# EAGLE library part MCB_STM32 (library stm32)
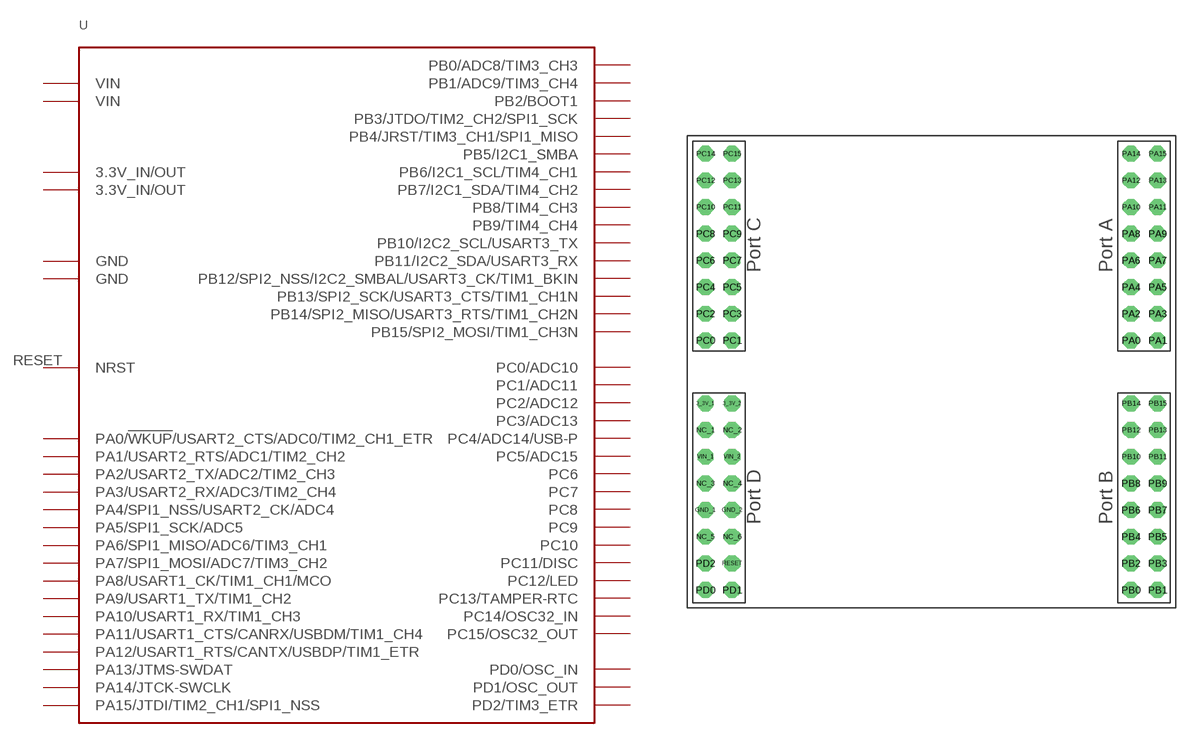
[diagram p7: symbol with the pads of MCBSTM32; footprint MCBSTM32]

Designator prefix U

## MCB_STM32  [MCBSTM32]
3_3V_1  3.3V_IN/OUT  pwr
3_3V_2  3.3V_IN/OUT  pwr
GND_1  GND  pwr
GND_2  GND  pwr
PA0  PA0/!WKUP!/USART2_CTS/ADC0/TIM2_CH1_ETR
PA1  PA1/USART2_RTS/ADC1/TIM2_CH2
PA2  PA2/USART2_TX/ADC2/TIM2_CH3
PA3  PA3/USART2_RX/ADC3/TIM2_CH4
PA4  PA4/SPI1_NSS/USART2_CK/ADC4
PA5  PA5/SPI1_SCK/ADC5
PA6  PA6/SPI1_MISO/ADC6/TIM3_CH1
PA7  PA7/SPI1_MOSI/ADC7/TIM3_CH2
PA8  PA8/USART1_CK/TIM1_CH1/MCO
PA9  PA9/USART1_TX/TIM1_CH2
PA10  PA10/USART1_RX/TIM1_CH3
PA11  PA11/USART1_CTS/CANRX/USBDM/TIM1_CH4
PA12  PA12/USART1_RTS/CANTX/USBDP/TIM1_ETR
PA13  PA13/JTMS-SWDAT
PA14  PA14/JTCK-SWCLK
PA15  PA15/JTDI/TIM2_CH1/SPI1_NSS
PB0  PB0/ADC8/TIM3_CH3
PB1  PB1/ADC9/TIM3_CH4
PB2  PB2/BOOT1
PB3  PB3/JTDO/TIM2_CH2/SPI1_SCK
PB4  PB4/JRST/TIM3_CH1/SPI1_MISO
PB5  PB5/I2C1_SMBA
PB6  PB6/I2C1_SCL/TIM4_CH1
PB7  PB7/I2C1_SDA/TIM4_CH2
PB8  PB8/TIM4_CH3
PB9  PB9/TIM4_CH4
PB10  PB10/I2C2_SCL/USART3_TX
PB11  PB11/I2C2_SDA/USART3_RX
PB12  PB12/SPI2_NSS/I2C2_SMBAL/USART3_CK/TIM1_BKIN
PB13  PB13/SPI2_SCK/USART3_CTS/TIM1_CH1N
PB14  PB14/SPI2_MISO/USART3_RTS/TIM1_CH2N
PB15  PB15/SPI2_MOSI/TIM1_CH3N
PC0  PC0/ADC10
PC1  PC1/ADC11
PC2  PC2/ADC12
PC3  PC3/ADC13
PC4  PC4/ADC14/USB-P
PC5  PC5/ADC15
PC6  PC6
PC7  PC7
PC8  PC8
PC9  PC9
PC10  PC10
PC11  PC11/DISC
PC12  PC12/LED
PC13  PC13/TAMPER-RTC
PC14  PC14/OSC32_IN
PC15  PC15/OSC32_OUT
PD0  PD0/OSC_IN
PD1  PD1/OSC_OUT
PD2  PD2/TIM3_ETR
RESET  NRST
VIN_1  VIN  pwr
VIN_2  VIN  pwr

## Footprint MCBSTM32 (pad centres in mm)
drill 1 octagon: 3_3V_1 -21.52,-3; 3_3V_2 -18.98,-3; GND_1 -21.52,-13.16; GND_2 -18.98,-13.16; NC_1 -21.52,-5.54; NC_2 -18.98,-5.54; NC_3 -21.52,-10.62; NC_4 -18.98,-10.62; NC_5 -21.52,-15.7; NC_6 -18.98,-15.7; PA0 18.98,3; PA1 21.52,3; PA2 18.98,5.54; PA3 21.52,5.54; PA4 18.98,8.08; PA5 21.52,8.08; PA6 18.98,10.62; PA7 21.52,10.62; PA8 18.98,13.16; PA9 21.52,13.16; PA10 18.98,15.7; PA11 21.52,15.7; PA12 18.98,18.24; PA13 21.52,18.24; PA14 18.98,20.78; PA15 21.52,20.78; PB0 18.98,-20.78; PB1 21.52,-20.78; PB2 18.98,-18.24; PB3 21.52,-18.24; PB4 18.98,-15.7; PB5 21.52,-15.7; PB6 18.98,-13.16; PB7 21.52,-13.16; PB8 18.98,-10.62; PB9 21.52,-10.62; PB10 18.98,-8.08; PB11 21.52,-8.08; PB12 18.98,-5.54; PB13 21.52,-5.54; PB14 18.98,-3; PB15 21.52,-3; PC0 -21.52,3; PC1 -18.98,3; PC2 -21.52,5.54; PC3 -18.98,5.54; PC4 -21.52,8.08; PC5 -18.98,8.08; PC6 -21.52,10.62; PC7 -18.98,10.62; PC8 -21.52,13.16; PC9 -18.98,13.16; PC10 -21.52,15.7; PC11 -18.98,15.7; PC12 -21.52,18.24; PC13 -18.98,18.24; PC14 -21.52,20.78; PC15 -18.98,20.78; PD0 -21.52,-20.78; PD1 -18.98,-20.78; PD2 -21.52,-18.24; RESET -18.98,-18.24; VIN_1 -21.52,-8.08; VIN_2 -18.98,-8.08